# EAGLE library part 24LC*** (library _mtvl_ic)
CMOS Serial EEPROM https://static.chipdip.ru/lib/204/DOC000204641.pdf
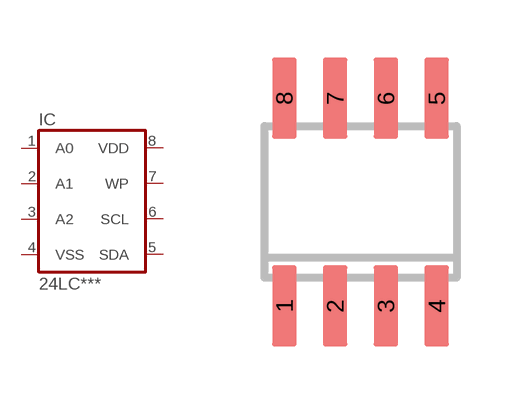
[diagram p41: symbol with the pads of SOIC8; footprint SOIC8]

Designator prefix IC

## 24LC  [SOIC8]
1  A0  in
2  A1  in
3  A2  in
4  VSS  pwr
5  SDA
6  SCL
7  WP  in
8  VDD  pwr

## Footprint SOIC8 (pad centres in mm)
Small Outline IC
smd 0.61 x 2.032: 1 -1.905,-2.6; 2 -0.635,-2.6; 3 0.635,-2.6; 4 1.905,-2.6; 5 1.905,2.6; 6 0.635,2.6; 7 -0.635,2.6; 8 -1.905,2.6